# Altium footprint library TEN_5_SMPV_05_5.0.PcbLib: 1 footprints
Each footprint in its own frame and in the unit in brackets; x right, y up, seen from the top. Pads: shape width x height; smd on the part's side, far side on the other; paste and mask are expansions set on the pad; w line width, h text height; cw(c..) or ccw(c..) is an arc to the next point about the centre after c.
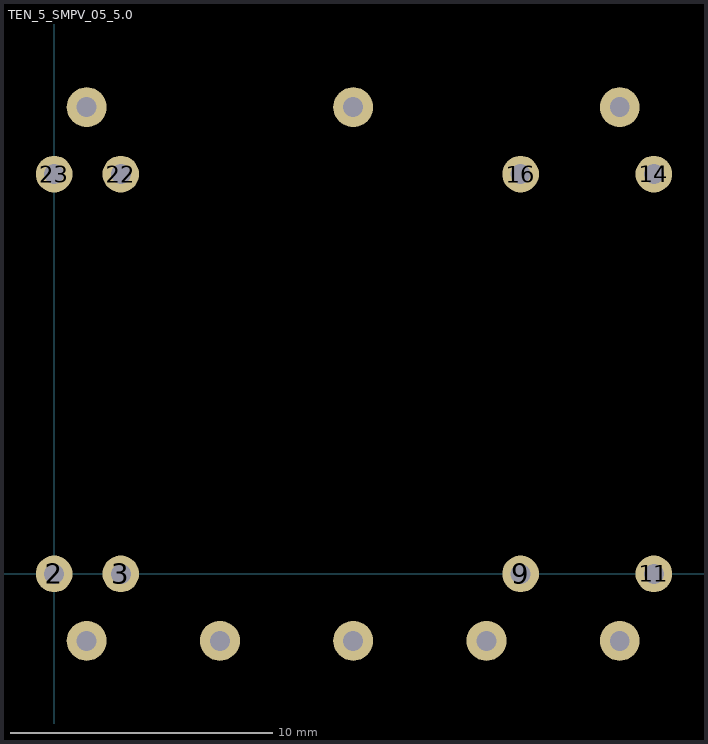
[diagram p0: the footprint, top view; thin cyan lines are the x and y axes]

## TEN_5_SMPV_05_5.0 [mil]
pads (16):
  round 55 hole 30: 2(0,0) 3(100,0) 9(700,0) 11(900,0) 14(900,600) 16(700,600) 22(100,600) 23(0,600)
  round 60 hole 30: ""(48.82,-100.39) ""(48.82,700.39) ""(248.82,-100.39) ""(448.82,-100.39) ""(448.82,700.39) ""(648.82,-100.39) ""(848.82,-100.39) ""(848.82,700.39)
3D body "TEN_5_SMPV_05_5.0.STEP": height 401.57, standoff -59.06, extent -177.61,-237.31 1074.36,837.88